# Altium schematic symbol library PJ-047BH.SchLib: 1 symbol
Pins are listed as number, name and electrical type; pins without a type are passive.

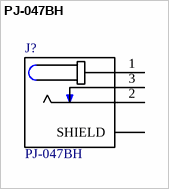
[diagram p0: symbol PJ-047BH]

## PJ-047BH
designator J?
2.5 mm Center Pin, 5.0 A, Right Angle, Through Hole, Shielded, Dc Power Jack Connector; MF: CUI Inc.; Digi-Key_Part_Number: CP-047BH-ND; SnapEDA_Link: https://www.snapeda.com/parts/PJ-047BH/CUI%20Inc./view-part/?ref=snap; MP: PJ-047BH; Package: None; Digi-Key_Purchase_URL: https://www.digikey.ca/product-detail/en/cui-inc/PJ-047BH/CP-047BH-ND/1644578?utm_source=snapeda&utm_medium=aggregator&utm_campaign=symbol; Value: *
footprint CUI_PJ-047BH
pins: 1, 2, 3, 5 SHIELD, 6 SHIELD